# Altium integrated library TI Power Management Supervisor and Reset IC.IntLib: 819 symbols (part 25 of 30)
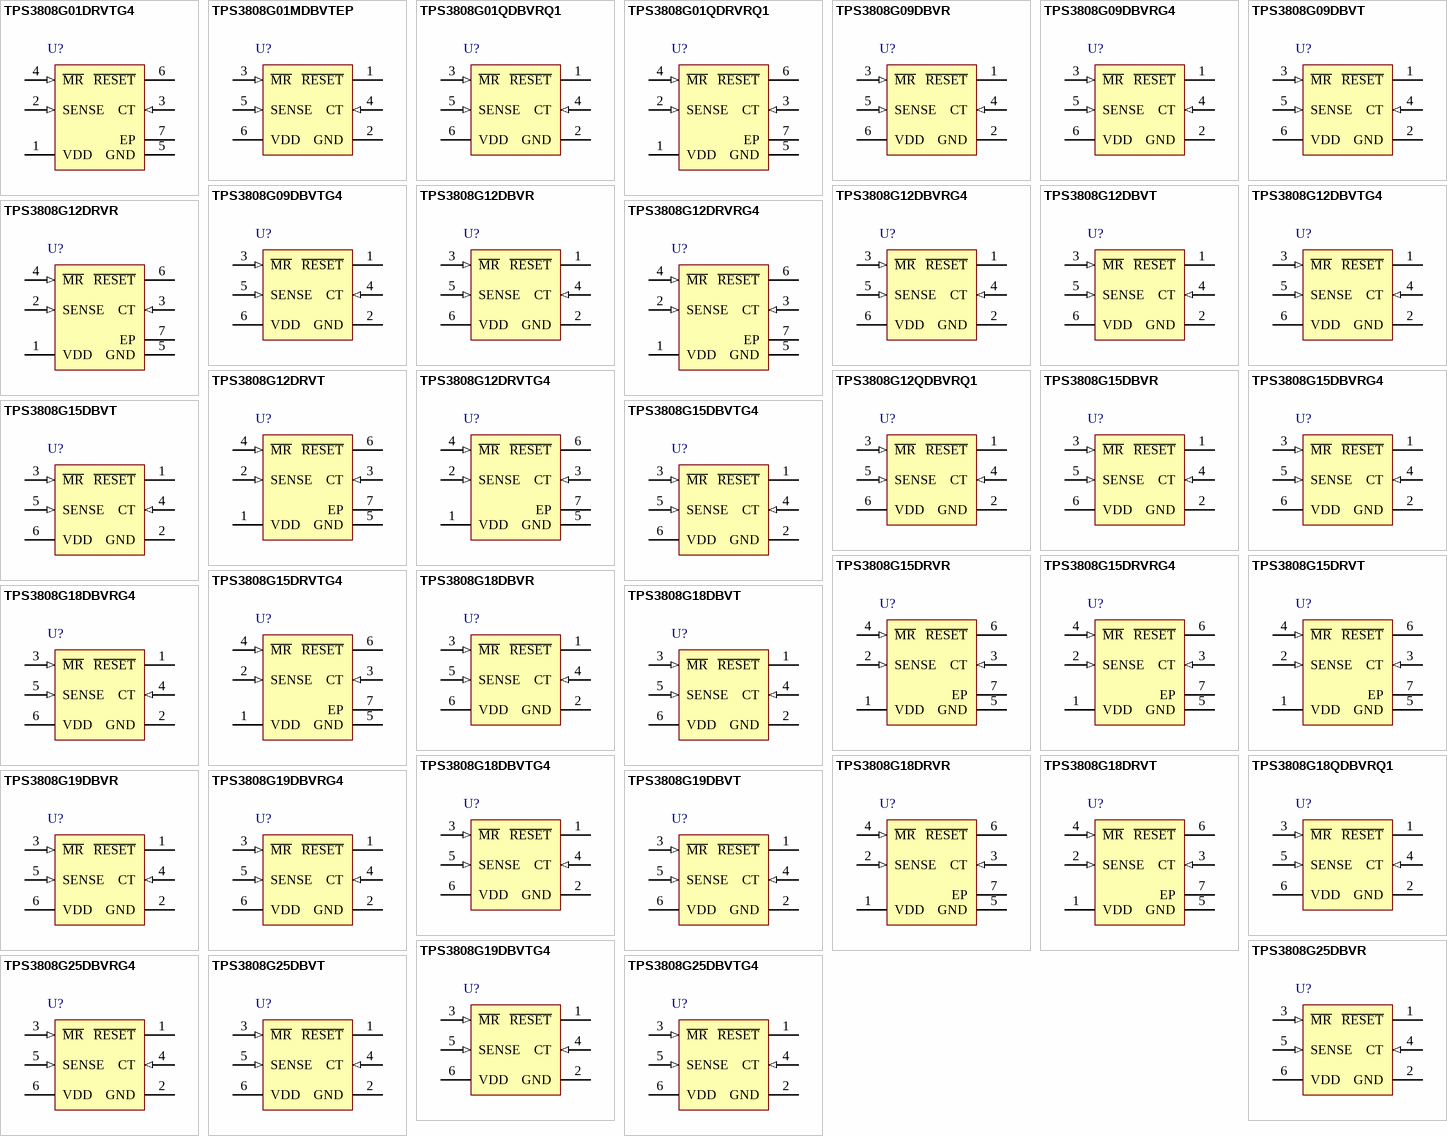
[diagram p45: symbols TPS3808G01DRVTG4 to TPS3808G25DBVTG4]

## TPS3808G19DBVTG4
designator U?
Low Quiescent Current, Programmable-Delay Supervisory Circuit, 1 Supply Monitored, -40 to 125 degC, 6-pin SOT-23 (DBV), Green (RoHS & no Sb/Br); Manufacturer: Texas Instruments; PartNumber: TPS3808G19DBVTG4; # of supplies monitored: 1; Iq(Typ)(uA): 2.4; Output Driver Type / Reset Output: Active-low, Open-drain; Rating: Catalog; Reset Threshold Accuracy(%): 0.5; SubFamily: Supervisor and Reset IC; Threshold Voltage 1 (typ)(Typ)(V): 1.77; VCC(Max)(V): 6.5; VCC(Min)(V): 1.7; DatasheetVersion: SBVS050J; PackageVersion: revK, Mar-2006; PackageReference: DBV6; PackageDescription: 6-Pin Plastic Small-Outline Package, 2.9 x 1.6 mm Body, 0.95 mm Pitch, 2.8 mm Lead Span; Supplier 1: Digi-Key; Supplier Part Number 1: TPS3808G19DBVTG4-ND; Supplier 2: Newark; Supplier Part Number 2: 03P5178; Supplier 3: Mouser; Supplier Part Number 3: 595-TPS3808G19DBVTG4; Time Delay(ms): Programmable; Mounting Technology: Surface Mount; Code_JEDEC: MO-178-AB*; ComponentLink1Description: Datasheet; ComponentLink1URL: http://www.ti.com/general/docs/lit/getliterature.tsp?genericPartNumber=TPS3808G19&fileType=pdf
footprint DBV6_N (SOT23, 6-Leads, Body 2.9x1.6mm, Pitch 0.95mm, Lead Span 2.8mm, IPC Medium Density)
footprint DBV6_L (SOT23, 6-Leads, Body 2.9x1.6mm, Pitch 0.95mm, Lead Span 2.8mm, IPC High Density)
footprint DBV6_M (SOT23, 6-Leads, Body 2.9x1.6mm, Pitch 0.95mm, Lead Span 2.8mm, IPC Low Density)
pins: 1 ~{RESET} (hiz) "R\E\S\E\T\ is an open-drain output that is driven to a low impedance state when R\E\S\E\T\ is asserted (either the SENSE input is lower than the threshold voltage (VIT) or the M\R\ pin is set to a logic low). R\E\S\E\T\ will (See Datasheet)", 2 GND (power) "Ground", 3 ~{MR} (in) "Driving the manual reset pin (M\R\) low asserts R\E\S\E\T\. M\R\ is internally tied to VDD by a 90k ohm pull-up resistor", 4 CT (in) "Reset period programming pin. Connecting this pin to VDD through a 40k ohm to 200k ohm resistor or leaving it open results in fixed delay times (see Electrical Characteristics). Connecting this pin to a ground referenced (See Datasheet)", 5 SENSE (in) "This pin is connected to the voltage to be monitored. If the voltage at this terminal drops below the threshold voltage VIT, then R\E\S\E\T\ is asserted.", 6 VDD (power) "Supply voltage. It is good analog design practice to place a 0.1µF ceramic capacitor close to this pin."

## TPS3808G25DBVR
designator U?
Low Quiescent Current, Programmable-Delay Supervisory Circuit, 1 Supply Monitored, -40 to 125 degC, 6-pin SOT-23 (DBV), Green (RoHS & no Sb/Br); Manufacturer: Texas Instruments; PartNumber: TPS3808G25DBVR; # of supplies monitored: 1; Iq(Typ)(uA): 2.4; Output Driver Type / Reset Output: Active-low, Open-drain; Rating: Catalog; Reset Threshold Accuracy(%): 0.5; SubFamily: Supervisor and Reset IC; Threshold Voltage 1 (typ)(Typ)(V): 2.33; VCC(Max)(V): 6.5; VCC(Min)(V): 1.7; DatasheetVersion: SBVS050J; PackageVersion: revK, Mar-2006; PackageReference: DBV6; PackageDescription: 6-Pin Plastic Small-Outline Package, 2.9 x 1.6 mm Body, 0.95 mm Pitch, 2.8 mm Lead Span; Supplier 1: Digi-Key; Supplier Part Number 1: 296-17193-2-ND; Supplier 2: Digi-Key; Supplier Part Number 2: 296-17193-1-ND; Supplier 3: Digi-Key; Supplier Part Number 3: 296-17193-6-ND; Supplier 4: Farnell; Supplier Part Number 4: 1574992; Supplier 5: Newark; Supplier Part Number 5: 21J9206; Supplier 6: Mouser; Supplier Part Number 6: 595-TPS3808G25DBVR; Time Delay(ms): Programmable; Mounting Technology: Surface Mount; Code_JEDEC: MO-178-AB*; ComponentLink1Description: Datasheet; ComponentLink1URL: http://www.ti.com/general/docs/lit/getliterature.tsp?genericPartNumber=TPS3808G25&fileType=pdf
footprint DBV6_N (SOT23, 6-Leads, Body 2.9x1.6mm, Pitch 0.95mm, Lead Span 2.8mm, IPC Medium Density)
footprint DBV6_L (SOT23, 6-Leads, Body 2.9x1.6mm, Pitch 0.95mm, Lead Span 2.8mm, IPC High Density)
footprint DBV6_M (SOT23, 6-Leads, Body 2.9x1.6mm, Pitch 0.95mm, Lead Span 2.8mm, IPC Low Density)
pins: 1 ~{RESET} (hiz) "R\E\S\E\T\ is an open-drain output that is driven to a low impedance state when R\E\S\E\T\ is asserted (either the SENSE input is lower than the threshold voltage (VIT) or the M\R\ pin is set to a logic low). R\E\S\E\T\ will (See Datasheet)", 2 GND (power) "Ground", 3 ~{MR} (in) "Driving the manual reset pin (M\R\) low asserts R\E\S\E\T\. M\R\ is internally tied to VDD by a 90k ohm pull-up resistor", 4 CT (in) "Reset period programming pin. Connecting this pin to VDD through a 40k ohm to 200k ohm resistor or leaving it open results in fixed delay times (see Electrical Characteristics). Connecting this pin to a ground referenced (See Datasheet)", 5 SENSE (in) "This pin is connected to the voltage to be monitored. If the voltage at this terminal drops below the threshold voltage VIT, then R\E\S\E\T\ is asserted.", 6 VDD (power) "Supply voltage. It is good analog design practice to place a 0.1µF ceramic capacitor close to this pin."

## TPS3808G25DBVRG4
designator U?
Low Quiescent Current, Programmable-Delay Supervisory Circuit, 1 Supply Monitored, -40 to 125 degC, 6-pin SOT-23 (DBV), Green (RoHS & no Sb/Br); Manufacturer: Texas Instruments; PartNumber: TPS3808G25DBVRG4; # of supplies monitored: 1; Iq(Typ)(uA): 2.4; Output Driver Type / Reset Output: Active-low, Open-drain; Rating: Catalog; Reset Threshold Accuracy(%): 0.5; SubFamily: Supervisor and Reset IC; Threshold Voltage 1 (typ)(Typ)(V): 2.33; VCC(Max)(V): 6.5; VCC(Min)(V): 1.7; DatasheetVersion: SBVS050J; PackageVersion: revK, Mar-2006; PackageReference: DBV6; PackageDescription: 6-Pin Plastic Small-Outline Package, 2.9 x 1.6 mm Body, 0.95 mm Pitch, 2.8 mm Lead Span; Supplier 1: Digi-Key; Supplier Part Number 1: TPS3808G25DBVRG4-ND; Supplier 2: Newark; Supplier Part Number 2: 08K4941; Supplier 3: Mouser; Supplier Part Number 3: 595-TPS3808G25DBVRG4; Time Delay(ms): Programmable; Mounting Technology: Surface Mount; Code_JEDEC: MO-178-AB*; ComponentLink1Description: Datasheet; ComponentLink1URL: http://www.ti.com/general/docs/lit/getliterature.tsp?genericPartNumber=TPS3808G25&fileType=pdf
footprint DBV6_N (SOT23, 6-Leads, Body 2.9x1.6mm, Pitch 0.95mm, Lead Span 2.8mm, IPC Medium Density)
footprint DBV6_L (SOT23, 6-Leads, Body 2.9x1.6mm, Pitch 0.95mm, Lead Span 2.8mm, IPC High Density)
footprint DBV6_M (SOT23, 6-Leads, Body 2.9x1.6mm, Pitch 0.95mm, Lead Span 2.8mm, IPC Low Density)
pins: 1 ~{RESET} (hiz) "R\E\S\E\T\ is an open-drain output that is driven to a low impedance state when R\E\S\E\T\ is asserted (either the SENSE input is lower than the threshold voltage (VIT) or the M\R\ pin is set to a logic low). R\E\S\E\T\ will (See Datasheet)", 2 GND (power) "Ground", 3 ~{MR} (in) "Driving the manual reset pin (M\R\) low asserts R\E\S\E\T\. M\R\ is internally tied to VDD by a 90k ohm pull-up resistor", 4 CT (in) "Reset period programming pin. Connecting this pin to VDD through a 40k ohm to 200k ohm resistor or leaving it open results in fixed delay times (see Electrical Characteristics). Connecting this pin to a ground referenced (See Datasheet)", 5 SENSE (in) "This pin is connected to the voltage to be monitored. If the voltage at this terminal drops below the threshold voltage VIT, then R\E\S\E\T\ is asserted.", 6 VDD (power) "Supply voltage. It is good analog design practice to place a 0.1µF ceramic capacitor close to this pin."

## TPS3808G25DBVT
designator U?
Low Quiescent Current, Programmable-Delay Supervisory Circuit, 1 Supply Monitored, -40 to 125 degC, 6-pin SOT-23 (DBV), Green (RoHS & no Sb/Br); Manufacturer: Texas Instruments; PartNumber: TPS3808G25DBVT; # of supplies monitored: 1; Iq(Typ)(uA): 2.4; Output Driver Type / Reset Output: Active-low, Open-drain; Rating: Catalog; Reset Threshold Accuracy(%): 0.5; SubFamily: Supervisor and Reset IC; Threshold Voltage 1 (typ)(Typ)(V): 2.33; VCC(Max)(V): 6.5; VCC(Min)(V): 1.7; DatasheetVersion: SBVS050J; PackageVersion: revK, Mar-2006; PackageReference: DBV6; PackageDescription: 6-Pin Plastic Small-Outline Package, 2.9 x 1.6 mm Body, 0.95 mm Pitch, 2.8 mm Lead Span; Supplier 1: Digi-Key; Supplier Part Number 1: 296-32482-2-ND; Supplier 2: Digi-Key; Supplier Part Number 2: 296-32482-1-ND; Supplier 3: Digi-Key; Supplier Part Number 3: 296-32482-6-ND; Supplier 4: Newark; Supplier Part Number 4: 21J9207; Supplier 5: Mouser; Supplier Part Number 5: 595-TPS3808G25DBVT; Time Delay(ms): Programmable; Mounting Technology: Surface Mount; Code_JEDEC: MO-178-AB*; ComponentLink1Description: Datasheet; ComponentLink1URL: http://www.ti.com/general/docs/lit/getliterature.tsp?genericPartNumber=TPS3808G25&fileType=pdf
footprint DBV6_N (SOT23, 6-Leads, Body 2.9x1.6mm, Pitch 0.95mm, Lead Span 2.8mm, IPC Medium Density)
footprint DBV6_L (SOT23, 6-Leads, Body 2.9x1.6mm, Pitch 0.95mm, Lead Span 2.8mm, IPC High Density)
footprint DBV6_M (SOT23, 6-Leads, Body 2.9x1.6mm, Pitch 0.95mm, Lead Span 2.8mm, IPC Low Density)
pins: 1 ~{RESET} (hiz) "R\E\S\E\T\ is an open-drain output that is driven to a low impedance state when R\E\S\E\T\ is asserted (either the SENSE input is lower than the threshold voltage (VIT) or the M\R\ pin is set to a logic low). R\E\S\E\T\ will (See Datasheet)", 2 GND (power) "Ground", 3 ~{MR} (in) "Driving the manual reset pin (M\R\) low asserts R\E\S\E\T\. M\R\ is internally tied to VDD by a 90k ohm pull-up resistor", 4 CT (in) "Reset period programming pin. Connecting this pin to VDD through a 40k ohm to 200k ohm resistor or leaving it open results in fixed delay times (see Electrical Characteristics). Connecting this pin to a ground referenced (See Datasheet)", 5 SENSE (in) "This pin is connected to the voltage to be monitored. If the voltage at this terminal drops below the threshold voltage VIT, then R\E\S\E\T\ is asserted.", 6 VDD (power) "Supply voltage. It is good analog design practice to place a 0.1µF ceramic capacitor close to this pin."

## TPS3808G25DBVTG4
designator U?
Low Quiescent Current, Programmable-Delay Supervisory Circuit, 1 Supply Monitored, -40 to 125 degC, 6-pin SOT-23 (DBV), Green (RoHS & no Sb/Br); Manufacturer: Texas Instruments; PartNumber: TPS3808G25DBVTG4; # of supplies monitored: 1; Iq(Typ)(uA): 2.4; Output Driver Type / Reset Output: Active-low, Open-drain; Rating: Catalog; Reset Threshold Accuracy(%): 0.5; SubFamily: Supervisor and Reset IC; Threshold Voltage 1 (typ)(Typ)(V): 2.33; VCC(Max)(V): 6.5; VCC(Min)(V): 1.7; DatasheetVersion: SBVS050J; PackageVersion: revK, Mar-2006; PackageReference: DBV6; PackageDescription: 6-Pin Plastic Small-Outline Package, 2.9 x 1.6 mm Body, 0.95 mm Pitch, 2.8 mm Lead Span; Supplier 1: Digi-Key; Supplier Part Number 1: TPS3808G25DBVTG4-ND; Supplier 2: Newark; Supplier Part Number 2: 24K5939; Supplier 3: Mouser; Supplier Part Number 3: 595-TPS3808G25DBVTG4; Time Delay(ms): Programmable; Mounting Technology: Surface Mount; Code_JEDEC: MO-178-AB*; ComponentLink1Description: Datasheet; ComponentLink1URL: http://www.ti.com/general/docs/lit/getliterature.tsp?genericPartNumber=TPS3808G25&fileType=pdf
footprint DBV6_N (SOT23, 6-Leads, Body 2.9x1.6mm, Pitch 0.95mm, Lead Span 2.8mm, IPC Medium Density)
footprint DBV6_L (SOT23, 6-Leads, Body 2.9x1.6mm, Pitch 0.95mm, Lead Span 2.8mm, IPC High Density)
footprint DBV6_M (SOT23, 6-Leads, Body 2.9x1.6mm, Pitch 0.95mm, Lead Span 2.8mm, IPC Low Density)
pins: 1 ~{RESET} (hiz) "R\E\S\E\T\ is an open-drain output that is driven to a low impedance state when R\E\S\E\T\ is asserted (either the SENSE input is lower than the threshold voltage (VIT) or the M\R\ pin is set to a logic low). R\E\S\E\T\ will (See Datasheet)", 2 GND (power) "Ground", 3 ~{MR} (in) "Driving the manual reset pin (M\R\) low asserts R\E\S\E\T\. M\R\ is internally tied to VDD by a 90k ohm pull-up resistor", 4 CT (in) "Reset period programming pin. Connecting this pin to VDD through a 40k ohm to 200k ohm resistor or leaving it open results in fixed delay times (see Electrical Characteristics). Connecting this pin to a ground referenced (See Datasheet)", 5 SENSE (in) "This pin is connected to the voltage to be monitored. If the voltage at this terminal drops below the threshold voltage VIT, then R\E\S\E\T\ is asserted.", 6 VDD (power) "Supply voltage. It is good analog design practice to place a 0.1µF ceramic capacitor close to this pin."

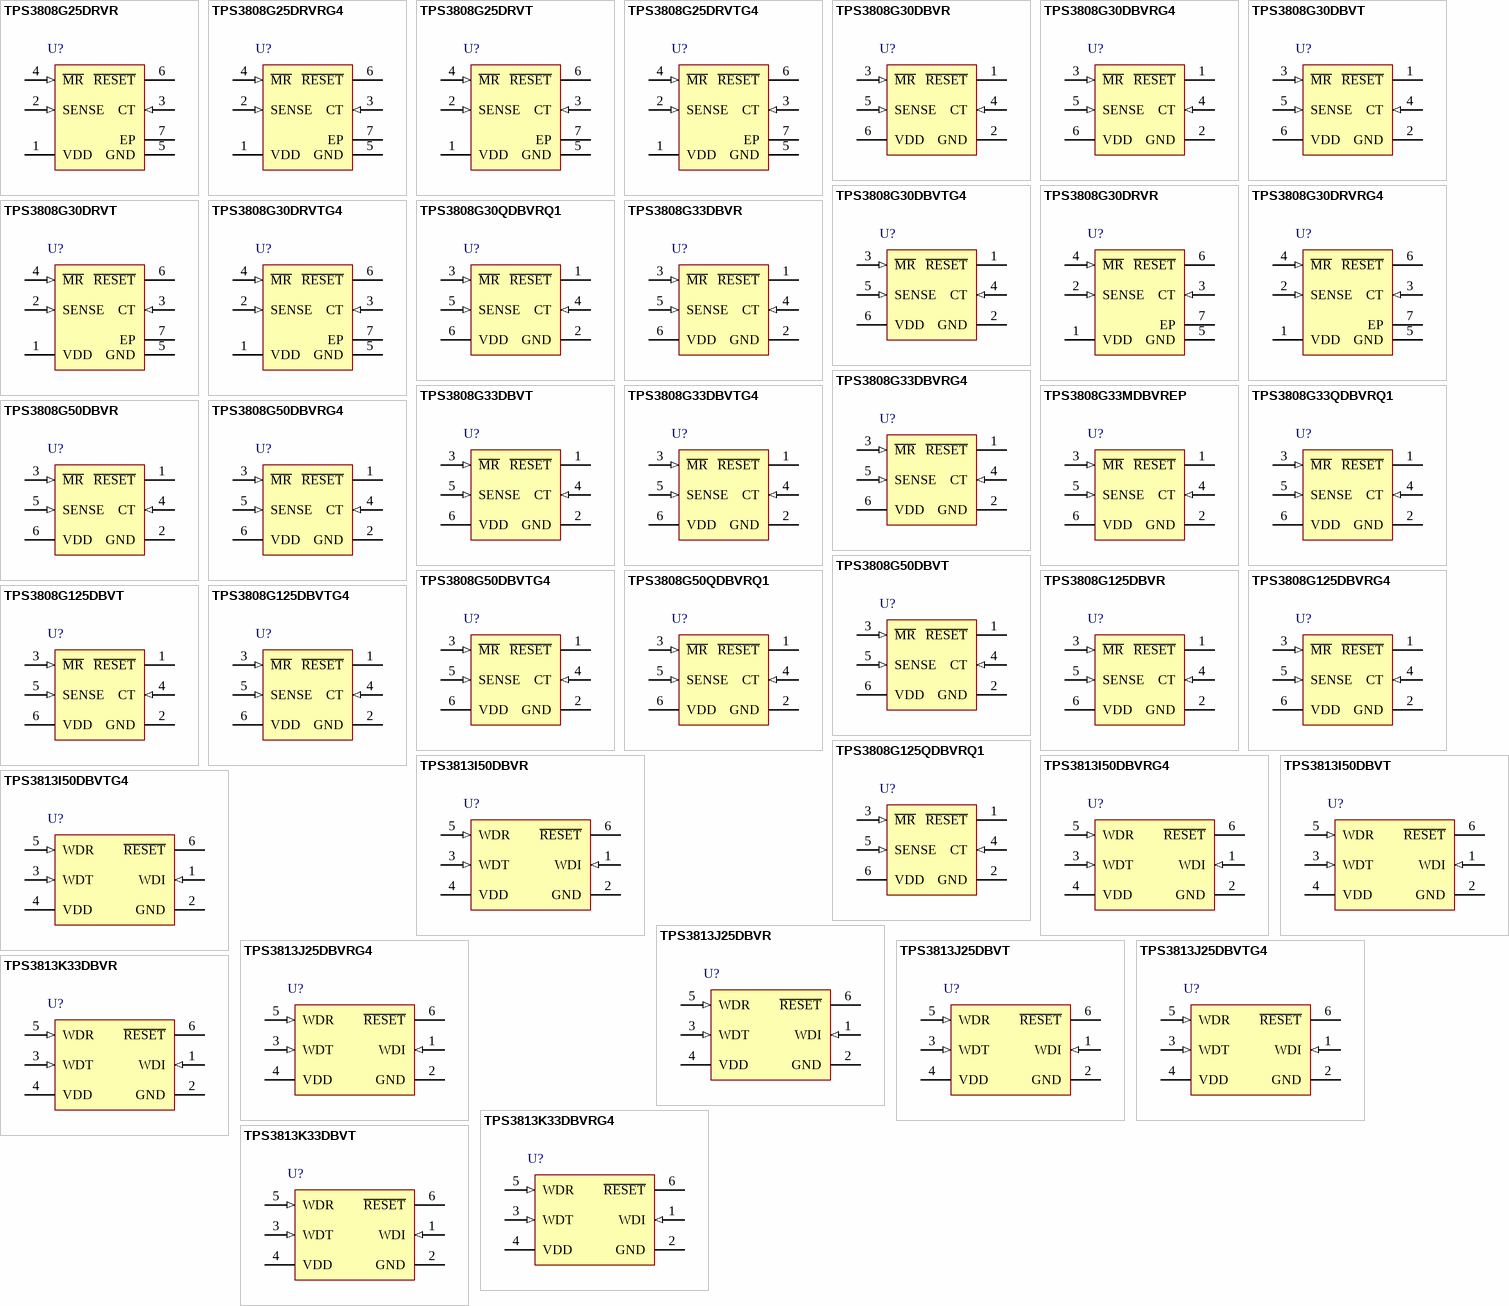
[diagram p18: symbols TPS3808G25DRVR to TPS3813K33DBVT]

## TPS3808G25DRVR
designator U?
Low Quiescent Current, Programmable-Delay Supervisory Circuit, 1 Supply Monitored, -40 to 125 degC, 6-pin SON (DRV), Green (RoHS & no Sb/Br); Manufacturer: Texas Instruments; PartNumber: TPS3808G25DRVR; # of supplies monitored: 1; Iq(Typ)(uA): 2.4; Output Driver Type / Reset Output: Active-low, Open-drain; Rating: Catalog; Reset Threshold Accuracy(%): 0.5; SubFamily: Supervisor and Reset IC; Threshold Voltage 1 (typ)(Typ)(V): 2.33; VCC(Max)(V): 6.5; VCC(Min)(V): 1.7; DatasheetVersion: SBVS050J; PackageVersion: revE, Oct-2010; PackageReference: DRV6-1600X1000TP; PackageDescription: 6-Pin Plastic Small Outline No-Lead, 2 x 2 x 0.8 mm Body, 0.65 mm Pitch, Exposed Pad; Supplier 1: Digi-Key; Supplier Part Number 1: 296-21642-2-ND; Supplier 2: Digi-Key; Supplier Part Number 2: 296-21642-1-ND; Supplier 3: Digi-Key; Supplier Part Number 3: 296-21642-6-ND; Supplier 4: Newark; Supplier Part Number 4: 34M0161; Supplier 5: Mouser; Supplier Part Number 5: 595-TPS3808G25DRVR; Time Delay(ms): Programmable; Mounting Technology: Surface Mount; ComponentLink1Description: Datasheet; ComponentLink1URL: http://www.ti.com/general/docs/lit/getliterature.tsp?genericPartNumber=TPS3808G25&fileType=pdf
footprint DRV6-1600X1000TP (SON, 6-Leads, Body 2x2mm, Pitch 0.65mm, Thermal Pad 1.6x1mm, TI Recommended)
pins: 1 VDD (power) "Supply voltage. It is good analog design practice to place a 0.1uF ceramic capacitor close to this pin.", 2 SENSE (in) "This pin is connected to the voltage to be monitored. If the voltage at this terminal drops below the threshold voltage VIT, then R\E\S\E\T\ is asserted", 3 CT (in) "Reset period programming pin. Connecting this pin to VDD through a 40k ohm to 200k ohm resistor or leaving it open results in fixed delay times (see Electrical Characteristics). Connecting this pin to a ground referenced (See Datasheet)", 4 ~{MR} (in) "Driving the manual reset pin (M\R\) low asserts R\E\S\E\T\. M\R\ is internally tied to VDD by a 90k ohm pull-up resistor", 5 GND (power) "Ground", 6 ~{RESET} (hiz) "R\E\S\E\T\ is an open-drain output that is driven to a low impedance state when R\E\S\E\T\ is asserted (either the SENSE input is lower than the threshold voltage (VIT) or the M\R\ pin is set to a logic low). R\E\S\E\T\ will (See Datasheet)", 7 EP (power) "PowerPAD. Connect to ground plane to enhance thermal performance of package."

## TPS3808G25DRVRG4
designator U?
Low Quiescent Current, Programmable-Delay Supervisory Circuit, 1 Supply Monitored, -40 to 125 degC, 6-pin SON (DRV), Green (RoHS & no Sb/Br); Manufacturer: Texas Instruments; PartNumber: TPS3808G25DRVRG4; # of supplies monitored: 1; Iq(Typ)(uA): 2.4; Output Driver Type / Reset Output: Active-low, Open-drain; Rating: Catalog; Reset Threshold Accuracy(%): 0.5; SubFamily: Supervisor and Reset IC; Threshold Voltage 1 (typ)(Typ)(V): 2.33; VCC(Max)(V): 6.5; VCC(Min)(V): 1.7; DatasheetVersion: SBVS050J; PackageVersion: revE, Oct-2010; PackageReference: DRV6-1600X1000TP; PackageDescription: 6-Pin Plastic Small Outline No-Lead, 2 x 2 x 0.8 mm Body, 0.65 mm Pitch, Exposed Pad; Supplier 1: Digi-Key; Supplier Part Number 1: TPS3808G25DRVRG4-ND; Supplier 2: Newark; Supplier Part Number 2: 34M0162; Supplier 3: Mouser; Supplier Part Number 3: 595-TPS3808G25DRVRG4; Time Delay(ms): Programmable; Mounting Technology: Surface Mount; ComponentLink1Description: Datasheet; ComponentLink1URL: http://www.ti.com/general/docs/lit/getliterature.tsp?genericPartNumber=TPS3808G25&fileType=pdf
footprint DRV6-1600X1000TP (SON, 6-Leads, Body 2x2mm, Pitch 0.65mm, Thermal Pad 1.6x1mm, TI Recommended)
pins: 1 VDD (power) "Supply voltage. It is good analog design practice to place a 0.1uF ceramic capacitor close to this pin.", 2 SENSE (in) "This pin is connected to the voltage to be monitored. If the voltage at this terminal drops below the threshold voltage VIT, then R\E\S\E\T\ is asserted", 3 CT (in) "Reset period programming pin. Connecting this pin to VDD through a 40k ohm to 200k ohm resistor or leaving it open results in fixed delay times (see Electrical Characteristics). Connecting this pin to a ground referenced (See Datasheet)", 4 ~{MR} (in) "Driving the manual reset pin (M\R\) low asserts R\E\S\E\T\. M\R\ is internally tied to VDD by a 90k ohm pull-up resistor", 5 GND (power) "Ground", 6 ~{RESET} (hiz) "R\E\S\E\T\ is an open-drain output that is driven to a low impedance state when R\E\S\E\T\ is asserted (either the SENSE input is lower than the threshold voltage (VIT) or the M\R\ pin is set to a logic low). R\E\S\E\T\ will (See Datasheet)", 7 EP (power) "PowerPAD. Connect to ground plane to enhance thermal performance of package."

## TPS3808G25DRVT
designator U?
Low Quiescent Current, Programmable-Delay Supervisory Circuit, 1 Supply Monitored, -40 to 125 degC, 6-pin SON (DRV), Green (RoHS & no Sb/Br); Manufacturer: Texas Instruments; PartNumber: TPS3808G25DRVT; # of supplies monitored: 1; Iq(Typ)(uA): 2.4; Output Driver Type / Reset Output: Active-low, Open-drain; Rating: Catalog; Reset Threshold Accuracy(%): 0.5; SubFamily: Supervisor and Reset IC; Threshold Voltage 1 (typ)(Typ)(V): 2.33; VCC(Max)(V): 6.5; VCC(Min)(V): 1.7; DatasheetVersion: SBVS050J; PackageVersion: revE, Oct-2010; PackageReference: DRV6-1600X1000TP; PackageDescription: 6-Pin Plastic Small Outline No-Lead, 2 x 2 x 0.8 mm Body, 0.65 mm Pitch, Exposed Pad; Supplier 1: Digi-Key; Supplier Part Number 1: TPS3808G25DRVT-ND; Supplier 2: Newark; Supplier Part Number 2: 34M0163; Supplier 3: Mouser; Supplier Part Number 3: 595-TPS3808G25DRVT; Time Delay(ms): Programmable; Mounting Technology: Surface Mount; ComponentLink1Description: Datasheet; ComponentLink1URL: http://www.ti.com/general/docs/lit/getliterature.tsp?genericPartNumber=TPS3808G25&fileType=pdf
footprint DRV6-1600X1000TP (SON, 6-Leads, Body 2x2mm, Pitch 0.65mm, Thermal Pad 1.6x1mm, TI Recommended)
pins: 1 VDD (power) "Supply voltage. It is good analog design practice to place a 0.1uF ceramic capacitor close to this pin.", 2 SENSE (in) "This pin is connected to the voltage to be monitored. If the voltage at this terminal drops below the threshold voltage VIT, then R\E\S\E\T\ is asserted", 3 CT (in) "Reset period programming pin. Connecting this pin to VDD through a 40k ohm to 200k ohm resistor or leaving it open results in fixed delay times (see Electrical Characteristics). Connecting this pin to a ground referenced (See Datasheet)", 4 ~{MR} (in) "Driving the manual reset pin (M\R\) low asserts R\E\S\E\T\. M\R\ is internally tied to VDD by a 90k ohm pull-up resistor", 5 GND (power) "Ground", 6 ~{RESET} (hiz) "R\E\S\E\T\ is an open-drain output that is driven to a low impedance state when R\E\S\E\T\ is asserted (either the SENSE input is lower than the threshold voltage (VIT) or the M\R\ pin is set to a logic low). R\E\S\E\T\ will (See Datasheet)", 7 EP (power) "PowerPAD. Connect to ground plane to enhance thermal performance of package."

## TPS3808G25DRVTG4
designator U?
Low Quiescent Current, Programmable-Delay Supervisory Circuit, 1 Supply Monitored, -40 to 125 degC, 6-pin SON (DRV), Green (RoHS & no Sb/Br); Manufacturer: Texas Instruments; PartNumber: TPS3808G25DRVTG4; # of supplies monitored: 1; Iq(Typ)(uA): 2.4; Output Driver Type / Reset Output: Active-low, Open-drain; Rating: Catalog; Reset Threshold Accuracy(%): 0.5; SubFamily: Supervisor and Reset IC; Threshold Voltage 1 (typ)(Typ)(V): 2.33; VCC(Max)(V): 6.5; VCC(Min)(V): 1.7; DatasheetVersion: SBVS050J; PackageVersion: revE, Oct-2010; PackageReference: DRV6-1600X1000TP; PackageDescription: 6-Pin Plastic Small Outline No-Lead, 2 x 2 x 0.8 mm Body, 0.65 mm Pitch, Exposed Pad; Supplier 1: Digi-Key; Supplier Part Number 1: TPS3808G25DRVTG4-ND; Supplier 2: Newark; Supplier Part Number 2: 34M0164; Supplier 3: Mouser; Supplier Part Number 3: 595-TPS3808G25DRVTG4; Time Delay(ms): Programmable; Mounting Technology: Surface Mount; ComponentLink1Description: Datasheet; ComponentLink1URL: http://www.ti.com/general/docs/lit/getliterature.tsp?genericPartNumber=TPS3808G25&fileType=pdf
footprint DRV6-1600X1000TP (SON, 6-Leads, Body 2x2mm, Pitch 0.65mm, Thermal Pad 1.6x1mm, TI Recommended)
pins: 1 VDD (power) "Supply voltage. It is good analog design practice to place a 0.1uF ceramic capacitor close to this pin.", 2 SENSE (in) "This pin is connected to the voltage to be monitored. If the voltage at this terminal drops below the threshold voltage VIT, then R\E\S\E\T\ is asserted", 3 CT (in) "Reset period programming pin. Connecting this pin to VDD through a 40k ohm to 200k ohm resistor or leaving it open results in fixed delay times (see Electrical Characteristics). Connecting this pin to a ground referenced (See Datasheet)", 4 ~{MR} (in) "Driving the manual reset pin (M\R\) low asserts R\E\S\E\T\. M\R\ is internally tied to VDD by a 90k ohm pull-up resistor", 5 GND (power) "Ground", 6 ~{RESET} (hiz) "R\E\S\E\T\ is an open-drain output that is driven to a low impedance state when R\E\S\E\T\ is asserted (either the SENSE input is lower than the threshold voltage (VIT) or the M\R\ pin is set to a logic low). R\E\S\E\T\ will (See Datasheet)", 7 EP (power) "PowerPAD. Connect to ground plane to enhance thermal performance of package."

## TPS3808G30DBVR
designator U?
Low Quiescent Current, Programmable-Delay Supervisory Circuit, 1 Supply Monitored, -40 to 125 degC, 6-pin SOT-23 (DBV), Green (RoHS & no Sb/Br); Manufacturer: Texas Instruments; PartNumber: TPS3808G30DBVR; # of supplies monitored: 1; Iq(Typ)(uA): 2.4; Output Driver Type / Reset Output: Active-low, Open-drain; Rating: Catalog; Reset Threshold Accuracy(%): 0.5; SubFamily: Supervisor and Reset IC; Threshold Voltage 1 (typ)(Typ)(V): 2.79; VCC(Max)(V): 6.5; VCC(Min)(V): 1.7; DatasheetVersion: SBVS050J; PackageVersion: revK, Mar-2006; PackageReference: DBV6; PackageDescription: 6-Pin Plastic Small-Outline Package, 2.9 x 1.6 mm Body, 0.95 mm Pitch, 2.8 mm Lead Span; Supplier 1: Digi-Key; Supplier Part Number 1: 296-17194-2-ND; Supplier 2: Digi-Key; Supplier Part Number 2: 296-17194-1-ND; Supplier 3: Digi-Key; Supplier Part Number 3: 296-17194-6-ND; Supplier 4: Newark; Supplier Part Number 4: 21J9208; Supplier 5: Mouser; Supplier Part Number 5: 595-TPS3808G30DBVR; Time Delay(ms): Programmable; Mounting Technology: Surface Mount; Code_JEDEC: MO-178-AB*; ComponentLink1Description: Datasheet; ComponentLink1URL: http://www.ti.com/general/docs/lit/getliterature.tsp?genericPartNumber=TPS3808G30&fileType=pdf
footprint DBV6_N (SOT23, 6-Leads, Body 2.9x1.6mm, Pitch 0.95mm, Lead Span 2.8mm, IPC Medium Density)
footprint DBV6_L (SOT23, 6-Leads, Body 2.9x1.6mm, Pitch 0.95mm, Lead Span 2.8mm, IPC High Density)
footprint DBV6_M (SOT23, 6-Leads, Body 2.9x1.6mm, Pitch 0.95mm, Lead Span 2.8mm, IPC Low Density)
pins: 1 ~{RESET} (hiz) "R\E\S\E\T\ is an open-drain output that is driven to a low impedance state when R\E\S\E\T\ is asserted (either the SENSE input is lower than the threshold voltage (VIT) or the M\R\ pin is set to a logic low). R\E\S\E\T\ will (See Datasheet)", 2 GND (power) "Ground", 3 ~{MR} (in) "Driving the manual reset pin (M\R\) low asserts R\E\S\E\T\. M\R\ is internally tied to VDD by a 90k ohm pull-up resistor", 4 CT (in) "Reset period programming pin. Connecting this pin to VDD through a 40k ohm to 200k ohm resistor or leaving it open results in fixed delay times (see Electrical Characteristics). Connecting this pin to a ground referenced (See Datasheet)", 5 SENSE (in) "This pin is connected to the voltage to be monitored. If the voltage at this terminal drops below the threshold voltage VIT, then R\E\S\E\T\ is asserted.", 6 VDD (power) "Supply voltage. It is good analog design practice to place a 0.1µF ceramic capacitor close to this pin."

## TPS3808G30DBVRG4
designator U?
Low Quiescent Current, Programmable-Delay Supervisory Circuit, 1 Supply Monitored, -40 to 125 degC, 6-pin SOT-23 (DBV), Green (RoHS & no Sb/Br); Manufacturer: Texas Instruments; PartNumber: TPS3808G30DBVRG4; # of supplies monitored: 1; Iq(Typ)(uA): 2.4; Output Driver Type / Reset Output: Active-low, Open-drain; Rating: Catalog; Reset Threshold Accuracy(%): 0.5; SubFamily: Supervisor and Reset IC; Threshold Voltage 1 (typ)(Typ)(V): 2.79; VCC(Max)(V): 6.5; VCC(Min)(V): 1.7; DatasheetVersion: SBVS050J; PackageVersion: revK, Mar-2006; PackageReference: DBV6; PackageDescription: 6-Pin Plastic Small-Outline Package, 2.9 x 1.6 mm Body, 0.95 mm Pitch, 2.8 mm Lead Span; Supplier 1: Digi-Key; Supplier Part Number 1: TPS3808G30DBVRG4-ND; Supplier 2: Newark; Supplier Part Number 2: 08K4942; Supplier 3: Mouser; Supplier Part Number 3: 595-TPS3808G30DBVRG4; Time Delay(ms): Programmable; Mounting Technology: Surface Mount; Code_JEDEC: MO-178-AB*; ComponentLink1Description: Datasheet; ComponentLink1URL: http://www.ti.com/general/docs/lit/getliterature.tsp?genericPartNumber=TPS3808G30&fileType=pdf
footprint DBV6_N (SOT23, 6-Leads, Body 2.9x1.6mm, Pitch 0.95mm, Lead Span 2.8mm, IPC Medium Density)
footprint DBV6_L (SOT23, 6-Leads, Body 2.9x1.6mm, Pitch 0.95mm, Lead Span 2.8mm, IPC High Density)
footprint DBV6_M (SOT23, 6-Leads, Body 2.9x1.6mm, Pitch 0.95mm, Lead Span 2.8mm, IPC Low Density)
pins: 1 ~{RESET} (hiz) "R\E\S\E\T\ is an open-drain output that is driven to a low impedance state when R\E\S\E\T\ is asserted (either the SENSE input is lower than the threshold voltage (VIT) or the M\R\ pin is set to a logic low). R\E\S\E\T\ will (See Datasheet)", 2 GND (power) "Ground", 3 ~{MR} (in) "Driving the manual reset pin (M\R\) low asserts R\E\S\E\T\. M\R\ is internally tied to VDD by a 90k ohm pull-up resistor", 4 CT (in) "Reset period programming pin. Connecting this pin to VDD through a 40k ohm to 200k ohm resistor or leaving it open results in fixed delay times (see Electrical Characteristics). Connecting this pin to a ground referenced (See Datasheet)", 5 SENSE (in) "This pin is connected to the voltage to be monitored. If the voltage at this terminal drops below the threshold voltage VIT, then R\E\S\E\T\ is asserted.", 6 VDD (power) "Supply voltage. It is good analog design practice to place a 0.1µF ceramic capacitor close to this pin."

## TPS3808G30DBVT
designator U?
Low Quiescent Current, Programmable-Delay Supervisory Circuit, 1 Supply Monitored, -40 to 125 degC, 6-pin SOT-23 (DBV), Green (RoHS & no Sb/Br); Manufacturer: Texas Instruments; PartNumber: TPS3808G30DBVT; # of supplies monitored: 1; Iq(Typ)(uA): 2.4; Output Driver Type / Reset Output: Active-low, Open-drain; Rating: Catalog; Reset Threshold Accuracy(%): 0.5; SubFamily: Supervisor and Reset IC; Threshold Voltage 1 (typ)(Typ)(V): 2.79; VCC(Max)(V): 6.5; VCC(Min)(V): 1.7; DatasheetVersion: SBVS050J; PackageVersion: revK, Mar-2006; PackageReference: DBV6; PackageDescription: 6-Pin Plastic Small-Outline Package, 2.9 x 1.6 mm Body, 0.95 mm Pitch, 2.8 mm Lead Span; Supplier 1: Digi-Key; Supplier Part Number 1: 296-26944-2-ND; Supplier 2: Digi-Key; Supplier Part Number 2: 296-26944-1-ND; Supplier 3: Digi-Key; Supplier Part Number 3: 296-26944-6-ND; Supplier 4: Newark; Supplier Part Number 4: 21J9209; Supplier 5: Mouser; Supplier Part Number 5: 595-TPS3808G30DBVT; Time Delay(ms): Programmable; Mounting Technology: Surface Mount; Code_JEDEC: MO-178-AB*; ComponentLink1Description: Datasheet; ComponentLink1URL: http://www.ti.com/general/docs/lit/getliterature.tsp?genericPartNumber=TPS3808G30&fileType=pdf
footprint DBV6_N (SOT23, 6-Leads, Body 2.9x1.6mm, Pitch 0.95mm, Lead Span 2.8mm, IPC Medium Density)
footprint DBV6_L (SOT23, 6-Leads, Body 2.9x1.6mm, Pitch 0.95mm, Lead Span 2.8mm, IPC High Density)
footprint DBV6_M (SOT23, 6-Leads, Body 2.9x1.6mm, Pitch 0.95mm, Lead Span 2.8mm, IPC Low Density)
pins: 1 ~{RESET} (hiz) "R\E\S\E\T\ is an open-drain output that is driven to a low impedance state when R\E\S\E\T\ is asserted (either the SENSE input is lower than the threshold voltage (VIT) or the M\R\ pin is set to a logic low). R\E\S\E\T\ will (See Datasheet)", 2 GND (power) "Ground", 3 ~{MR} (in) "Driving the manual reset pin (M\R\) low asserts R\E\S\E\T\. M\R\ is internally tied to VDD by a 90k ohm pull-up resistor", 4 CT (in) "Reset period programming pin. Connecting this pin to VDD through a 40k ohm to 200k ohm resistor or leaving it open results in fixed delay times (see Electrical Characteristics). Connecting this pin to a ground referenced (See Datasheet)", 5 SENSE (in) "This pin is connected to the voltage to be monitored. If the voltage at this terminal drops below the threshold voltage VIT, then R\E\S\E\T\ is asserted.", 6 VDD (power) "Supply voltage. It is good analog design practice to place a 0.1µF ceramic capacitor close to this pin."

## TPS3808G30DBVTG4
designator U?
Low Quiescent Current, Programmable-Delay Supervisory Circuit, 1 Supply Monitored, -40 to 125 degC, 6-pin SOT-23 (DBV), Green (RoHS & no Sb/Br); Manufacturer: Texas Instruments; PartNumber: TPS3808G30DBVTG4; # of supplies monitored: 1; Iq(Typ)(uA): 2.4; Output Driver Type / Reset Output: Active-low, Open-drain; Rating: Catalog; Reset Threshold Accuracy(%): 0.5; SubFamily: Supervisor and Reset IC; Threshold Voltage 1 (typ)(Typ)(V): 2.79; VCC(Max)(V): 6.5; VCC(Min)(V): 1.7; DatasheetVersion: SBVS050J; PackageVersion: revK, Mar-2006; PackageReference: DBV6; PackageDescription: 6-Pin Plastic Small-Outline Package, 2.9 x 1.6 mm Body, 0.95 mm Pitch, 2.8 mm Lead Span; Supplier 1: Digi-Key; Supplier Part Number 1: TPS3808G30DBVTG4-ND; Supplier 2: Newark; Supplier Part Number 2: 24K5940; Supplier 3: Mouser; Supplier Part Number 3: 595-TPS3808G30DBVTG4; Time Delay(ms): Programmable; Mounting Technology: Surface Mount; Code_JEDEC: MO-178-AB*; ComponentLink1Description: Datasheet; ComponentLink1URL: http://www.ti.com/general/docs/lit/getliterature.tsp?genericPartNumber=TPS3808G30&fileType=pdf
footprint DBV6_N (SOT23, 6-Leads, Body 2.9x1.6mm, Pitch 0.95mm, Lead Span 2.8mm, IPC Medium Density)
footprint DBV6_L (SOT23, 6-Leads, Body 2.9x1.6mm, Pitch 0.95mm, Lead Span 2.8mm, IPC High Density)
footprint DBV6_M (SOT23, 6-Leads, Body 2.9x1.6mm, Pitch 0.95mm, Lead Span 2.8mm, IPC Low Density)
pins: 1 ~{RESET} (hiz) "R\E\S\E\T\ is an open-drain output that is driven to a low impedance state when R\E\S\E\T\ is asserted (either the SENSE input is lower than the threshold voltage (VIT) or the M\R\ pin is set to a logic low). R\E\S\E\T\ will (See Datasheet)", 2 GND (power) "Ground", 3 ~{MR} (in) "Driving the manual reset pin (M\R\) low asserts R\E\S\E\T\. M\R\ is internally tied to VDD by a 90k ohm pull-up resistor", 4 CT (in) "Reset period programming pin. Connecting this pin to VDD through a 40k ohm to 200k ohm resistor or leaving it open results in fixed delay times (see Electrical Characteristics). Connecting this pin to a ground referenced (See Datasheet)", 5 SENSE (in) "This pin is connected to the voltage to be monitored. If the voltage at this terminal drops below the threshold voltage VIT, then R\E\S\E\T\ is asserted.", 6 VDD (power) "Supply voltage. It is good analog design practice to place a 0.1µF ceramic capacitor close to this pin."

## TPS3808G30DRVR
designator U?
Low Quiescent Current, Programmable-Delay Supervisory Circuit, 1 Supply Monitored, -40 to 125 degC, 6-pin SON (DRV), Green (RoHS & no Sb/Br); Manufacturer: Texas Instruments; PartNumber: TPS3808G30DRVR; # of supplies monitored: 1; Iq(Typ)(uA): 2.4; Output Driver Type / Reset Output: Active-low, Open-drain; Rating: Catalog; Reset Threshold Accuracy(%): 0.5; SubFamily: Supervisor and Reset IC; Threshold Voltage 1 (typ)(Typ)(V): 2.79; VCC(Max)(V): 6.5; VCC(Min)(V): 1.7; DatasheetVersion: SBVS050J; PackageVersion: revE, Oct-2010; PackageReference: DRV6-1600X1000TP; PackageDescription: 6-Pin Plastic Small Outline No-Lead, 2 x 2 x 0.8 mm Body, 0.65 mm Pitch, Exposed Pad; Supplier 1: Digi-Key; Supplier Part Number 1: 296-23103-2-ND; Supplier 2: Digi-Key; Supplier Part Number 2: 296-23103-1-ND; Supplier 3: Digi-Key; Supplier Part Number 3: 296-23103-6-ND; Supplier 4: Newark; Supplier Part Number 4: 85M0219; Supplier 5: Mouser; Supplier Part Number 5: 595-TPS3808G30DRVR; Time Delay(ms): Programmable; Mounting Technology: Surface Mount; ComponentLink1Description: Datasheet; ComponentLink1URL: http://www.ti.com/general/docs/lit/getliterature.tsp?genericPartNumber=TPS3808G30&fileType=pdf
footprint DRV6-1600X1000TP (SON, 6-Leads, Body 2x2mm, Pitch 0.65mm, Thermal Pad 1.6x1mm, TI Recommended)
pins: 1 VDD (power) "Supply voltage. It is good analog design practice to place a 0.1uF ceramic capacitor close to this pin.", 2 SENSE (in) "This pin is connected to the voltage to be monitored. If the voltage at this terminal drops below the threshold voltage VIT, then R\E\S\E\T\ is asserted", 3 CT (in) "Reset period programming pin. Connecting this pin to VDD through a 40k ohm to 200k ohm resistor or leaving it open results in fixed delay times (see Electrical Characteristics). Connecting this pin to a ground referenced (See Datasheet)", 4 ~{MR} (in) "Driving the manual reset pin (M\R\) low asserts R\E\S\E\T\. M\R\ is internally tied to VDD by a 90k ohm pull-up resistor.", 5 GND (power) "Ground", 6 ~{RESET} (hiz) "R\E\S\E\T\ is an open-drain output that is driven to a low impedance state when R\E\S\E\T\ is asserted (either the SENSE input is lower than the threshold voltage (VIT) or the M\R\ pin is set to a logic low). R\E\S\E\T\ will (See Datasheet)", 7 EP (power) "PowerPAD. Connect to ground plane to enhance thermal performance of package."

## TPS3808G30DRVRG4
designator U?
Low Quiescent Current, Programmable-Delay Supervisory Circuit, 1 Supply Monitored, -40 to 125 degC, 6-pin SON (DRV), Green (RoHS & no Sb/Br); Manufacturer: Texas Instruments; PartNumber: TPS3808G30DRVRG4; # of supplies monitored: 1; Iq(Typ)(uA): 2.4; Output Driver Type / Reset Output: Active-low, Open-drain; Rating: Catalog; Reset Threshold Accuracy(%): 0.5; SubFamily: Supervisor and Reset IC; Threshold Voltage 1 (typ)(Typ)(V): 2.79; VCC(Max)(V): 6.5; VCC(Min)(V): 1.7; DatasheetVersion: SBVS050J; PackageVersion: revE, Oct-2010; PackageReference: DRV6-1600X1000TP; PackageDescription: 6-Pin Plastic Small Outline No-Lead, 2 x 2 x 0.8 mm Body, 0.65 mm Pitch, Exposed Pad; Supplier 1: Digi-Key; Supplier Part Number 1: TPS3808G30DRVRG4-ND; Supplier 2: Mouser; Supplier Part Number 2: 595-TPS3808G30DRVRG4; Time Delay(ms): Programmable; Mounting Technology: Surface Mount; ComponentLink1Description: Datasheet; ComponentLink1URL: http://www.ti.com/general/docs/lit/getliterature.tsp?genericPartNumber=TPS3808G30&fileType=pdf
footprint DRV6-1600X1000TP (SON, 6-Leads, Body 2x2mm, Pitch 0.65mm, Thermal Pad 1.6x1mm, TI Recommended)
pins: 1 VDD (power) "Supply voltage. It is good analog design practice to place a 0.1uF ceramic capacitor close to this pin.", 2 SENSE (in) "This pin is connected to the voltage to be monitored. If the voltage at this terminal drops below the threshold voltage VIT, then R\E\S\E\T\ is asserted", 3 CT (in) "Reset period programming pin. Connecting this pin to VDD through a 40k ohm to 200k ohm resistor or leaving it open results in fixed delay times (see Electrical Characteristics). Connecting this pin to a ground referenced (See Datasheet)", 4 ~{MR} (in) "Driving the manual reset pin (M\R\) low asserts R\E\S\E\T\. M\R\ is internally tied to VDD by a 90k ohm pull-up resistor.", 5 GND (power) "Ground", 6 ~{RESET} (hiz) "R\E\S\E\T\ is an open-drain output that is driven to a low impedance state when R\E\S\E\T\ is asserted (either the SENSE input is lower than the threshold voltage (VIT) or the M\R\ pin is set to a logic low). R\E\S\E\T\ will (See Datasheet)", 7 EP (power) "PowerPAD. Connect to ground plane to enhance thermal performance of package."

## TPS3808G30DRVT
designator U?
Low Quiescent Current, Programmable-Delay Supervisory Circuit, 1 Supply Monitored, -40 to 125 degC, 6-pin SON (DRV), Green (RoHS & no Sb/Br); Manufacturer: Texas Instruments; PartNumber: TPS3808G30DRVT; # of supplies monitored: 1; Iq(Typ)(uA): 2.4; Output Driver Type / Reset Output: Active-low, Open-drain; Rating: Catalog; Reset Threshold Accuracy(%): 0.5; SubFamily: Supervisor and Reset IC; Threshold Voltage 1 (typ)(Typ)(V): 2.79; VCC(Max)(V): 6.5; VCC(Min)(V): 1.7; DatasheetVersion: SBVS050J; PackageVersion: revE, Oct-2010; PackageReference: DRV6-1600X1000TP; PackageDescription: 6-Pin Plastic Small Outline No-Lead, 2 x 2 x 0.8 mm Body, 0.65 mm Pitch, Exposed Pad; Supplier 1: Digi-Key; Supplier Part Number 1: TPS3808G30DRVT-ND; Supplier 2: Newark; Supplier Part Number 2: 85M0220; Supplier 3: Mouser; Supplier Part Number 3: 595-TPS3808G30DRVT; Time Delay(ms): Programmable; Mounting Technology: Surface Mount; ComponentLink1Description: Datasheet; ComponentLink1URL: http://www.ti.com/general/docs/lit/getliterature.tsp?genericPartNumber=TPS3808G30&fileType=pdf
footprint DRV6-1600X1000TP (SON, 6-Leads, Body 2x2mm, Pitch 0.65mm, Thermal Pad 1.6x1mm, TI Recommended)
pins: 1 VDD (power) "Supply voltage. It is good analog design practice to place a 0.1uF ceramic capacitor close to this pin.", 2 SENSE (in) "This pin is connected to the voltage to be monitored. If the voltage at this terminal drops below the threshold voltage VIT, then R\E\S\E\T\ is asserted", 3 CT (in) "Reset period programming pin. Connecting this pin to VDD through a 40k ohm to 200k ohm resistor or leaving it open results in fixed delay times (see Electrical Characteristics). Connecting this pin to a ground referenced (See Datasheet)", 4 ~{MR} (in) "Driving the manual reset pin (M\R\) low asserts R\E\S\E\T\. M\R\ is internally tied to VDD by a 90k ohm pull-up resistor.", 5 GND (power) "Ground", 6 ~{RESET} (hiz) "R\E\S\E\T\ is an open-drain output that is driven to a low impedance state when R\E\S\E\T\ is asserted (either the SENSE input is lower than the threshold voltage (VIT) or the M\R\ pin is set to a logic low). R\E\S\E\T\ will (See Datasheet)", 7 EP (power) "PowerPAD. Connect to ground plane to enhance thermal performance of package."

## TPS3808G30DRVTG4
designator U?
Low Quiescent Current, Programmable-Delay Supervisory Circuit, 1 Supply Monitored, -40 to 125 degC, 6-pin SON (DRV), Green (RoHS & no Sb/Br); Manufacturer: Texas Instruments; PartNumber: TPS3808G30DRVTG4; # of supplies monitored: 1; Iq(Typ)(uA): 2.4; Output Driver Type / Reset Output: Active-low, Open-drain; Rating: Catalog; Reset Threshold Accuracy(%): 0.5; SubFamily: Supervisor and Reset IC; Threshold Voltage 1 (typ)(Typ)(V): 2.79; VCC(Max)(V): 6.5; VCC(Min)(V): 1.7; DatasheetVersion: SBVS050J; PackageVersion: revE, Oct-2010; PackageReference: DRV6-1600X1000TP; PackageDescription: 6-Pin Plastic Small Outline No-Lead, 2 x 2 x 0.8 mm Body, 0.65 mm Pitch, Exposed Pad; Supplier 1: Digi-Key; Supplier Part Number 1: TPS3808G30DRVTG4-ND; Supplier 2: Newark; Supplier Part Number 2: 95M0041; Supplier 3: Mouser; Supplier Part Number 3: 595-TPS3808G30DRVTG4; Time Delay(ms): Programmable; Mounting Technology: Surface Mount; ComponentLink1Description: Datasheet; ComponentLink1URL: http://www.ti.com/general/docs/lit/getliterature.tsp?genericPartNumber=TPS3808G30&fileType=pdf
footprint DRV6-1600X1000TP (SON, 6-Leads, Body 2x2mm, Pitch 0.65mm, Thermal Pad 1.6x1mm, TI Recommended)
pins: 1 VDD (power) "Supply voltage. It is good analog design practice to place a 0.1uF ceramic capacitor close to this pin.", 2 SENSE (in) "This pin is connected to the voltage to be monitored. If the voltage at this terminal drops below the threshold voltage VIT, then R\E\S\E\T\ is asserted", 3 CT (in) "Reset period programming pin. Connecting this pin to VDD through a 40k ohm to 200k ohm resistor or leaving it open results in fixed delay times (see Electrical Characteristics). Connecting this pin to a ground referenced (See Datasheet)", 4 ~{MR} (in) "Driving the manual reset pin (M\R\) low asserts R\E\S\E\T\. M\R\ is internally tied to VDD by a 90k ohm pull-up resistor.", 5 GND (power) "Ground", 6 ~{RESET} (hiz) "R\E\S\E\T\ is an open-drain output that is driven to a low impedance state when R\E\S\E\T\ is asserted (either the SENSE input is lower than the threshold voltage (VIT) or the M\R\ pin is set to a logic low). R\E\S\E\T\ will (See Datasheet)", 7 EP (power) "PowerPAD. Connect to ground plane to enhance thermal performance of package."

## TPS3808G30QDBVRQ1
designator U?
Automotive Catalog Low Quiescent Current, Programmable-Delay Supervisory Circuit, 1 Supply Monitored, -40 to 125 degC, 6-pin SOT-23 (DBV), Green (RoHS & no Sb/Br); Manufacturer: Texas Instruments; PartNumber: TPS3808G30QDBVRQ1; # of supplies monitored: 1; Iq(Typ)(uA): 2.4; Output Driver Type / Reset Output: Active-low, Open-drain; Reset Threshold Accuracy(%): 0.5; SubFamily: Supervisor and Reset IC; Threshold Voltage 1 (typ)(Typ)(V): 2.79; VCC(Max)(V): 6.5; VCC(Min)(V): 1.7; DatasheetVersion: SBVS085H; PackageVersion: revK, Mar-2006; PackageReference: DBV6; PackageDescription: 6-Pin Plastic Small-Outline Package, 2.9 x 1.6 mm Body, 0.95 mm Pitch, 2.8 mm Lead Span; Supplier 1: Digi-Key; Supplier Part Number 1: 296-23327-2-ND; Supplier 2: Digi-Key; Supplier Part Number 2: 296-23327-1-ND; Supplier 3: Digi-Key; Supplier Part Number 3: 296-23327-6-ND; Supplier 4: Newark; Supplier Part Number 4: 53M4002; Supplier 5: Mouser; Supplier Part Number 5: 595-PS3808G30QDBVRQ1; Rating: Automotive; Time Delay(ms): Programmable; Mounting Technology: Surface Mount; Code_JEDEC: MO-178-AB*; ComponentLink1Description: Datasheet; ComponentLink1URL: http://www.ti.com/general/docs/lit/getliterature.tsp?genericPartNumber=TPS3808G30-Q1&fileType=pdf
footprint DBV6_N (SOT23, 6-Leads, Body 2.9x1.6mm, Pitch 0.95mm, Lead Span 2.8mm, IPC Medium Density)
footprint DBV6_L (SOT23, 6-Leads, Body 2.9x1.6mm, Pitch 0.95mm, Lead Span 2.8mm, IPC High Density)
footprint DBV6_M (SOT23, 6-Leads, Body 2.9x1.6mm, Pitch 0.95mm, Lead Span 2.8mm, IPC Low Density)
pins: 1 ~{RESET} (oc) "Reset. This is an open-drain output that is driven to a low impedance state when R\E\S\E\T\ is asserted (either the SENSE input is lower than the threshold voltage (VIT) or the M\R\ pin is set to a logic low). R\E\S\E\T\ (See Datasheet)", 2 GND (power) "Ground", 3 ~{MR} (in) "Manual reset. Driving this pin low asserts R\E\S\E\T\. M\R\ is internally tied to VDD by a 90-k ohm pullup resistor.", 4 CT (in) "Reset period programming. Connecting this pin to VDD through a 40-k ohm to 200-k ohm resistor or leaving it open results in fixed delay times (see Electrical Characteristics). Connecting this pin to a ground referenced (See Datasheet)", 5 SENSE (in) "Voltage sense. This pin is connected to the voltage to be monitored. If the voltage at this terminal drops below the threshold voltage (VIT), R\E\S\E\T\ is asserted.", 6 VDD (power) "Supply voltage. It is good analog design practice to place a 0.1-uF ceramic capacitor close to this pin."

## TPS3808G33DBVR
designator U?
Low Quiescent Current, Programmable-Delay Supervisory Circuit, 1 Supply Monitored, -40 to 125 degC, 6-pin SOT-23 (DBV), Green (RoHS & no Sb/Br); Manufacturer: Texas Instruments; PartNumber: TPS3808G33DBVR; # of supplies monitored: 1; Iq(Typ)(uA): 2.4; Output Driver Type / Reset Output: Active-low, Open-drain; Rating: Catalog; Reset Threshold Accuracy(%): 0.5; SubFamily: Supervisor and Reset IC; Threshold Voltage 1 (typ)(Typ)(V): 3.07; VCC(Max)(V): 6.5; VCC(Min)(V): 1.7; DatasheetVersion: SBVS050J; PackageVersion: revK, Mar-2006; PackageReference: DBV6; PackageDescription: 6-Pin Plastic Small-Outline Package, 2.9 x 1.6 mm Body, 0.95 mm Pitch, 2.8 mm Lead Span; Supplier 1: Digi-Key; Supplier Part Number 1: 296-17195-2-ND; Supplier 2: Digi-Key; Supplier Part Number 2: 296-17195-1-ND; Supplier 3: Digi-Key; Supplier Part Number 3: 296-17195-6-ND; Supplier 4: Farnell; Supplier Part Number 4: 1703467; Supplier 5: Newark; Supplier Part Number 5: 21J9210; Supplier 6: Mouser; Supplier Part Number 6: 595-TPS3808G33DBVR; Time Delay(ms): Programmable; Mounting Technology: Surface Mount; Code_JEDEC: MO-178-AB*; ComponentLink1Description: Datasheet; ComponentLink1URL: http://www.ti.com/general/docs/lit/getliterature.tsp?genericPartNumber=TPS3808G33&fileType=pdf
footprint DBV6_N (SOT23, 6-Leads, Body 2.9x1.6mm, Pitch 0.95mm, Lead Span 2.8mm, IPC Medium Density)
footprint DBV6_L (SOT23, 6-Leads, Body 2.9x1.6mm, Pitch 0.95mm, Lead Span 2.8mm, IPC High Density)
footprint DBV6_M (SOT23, 6-Leads, Body 2.9x1.6mm, Pitch 0.95mm, Lead Span 2.8mm, IPC Low Density)
pins: 1 ~{RESET} (hiz) "R\E\S\E\T\ is an open-drain output that is driven to a low impedance state when R\E\S\E\T\ is asserted (either the SENSE input is lower than the threshold voltage (VIT) or the M\R\ pin is set to a logic low). R\E\S\E\T\ will (See Datasheet)", 2 GND (power) "Ground", 3 ~{MR} (in) "Driving the manual reset pin (M\R\) low asserts R\E\S\E\T\. M\R\ is internally tied to VDD by a 90k ohm pull-up resistor", 4 CT (in) "Reset period programming pin. Connecting this pin to VDD through a 40k ohm to 200k ohm resistor or leaving it open results in fixed delay times (see Electrical Characteristics). Connecting this pin to a ground referenced (See Datasheet)", 5 SENSE (in) "This pin is connected to the voltage to be monitored. If the voltage at this terminal drops below the threshold voltage VIT, then R\E\S\E\T\ is asserted.", 6 VDD (power) "Supply voltage. It is good analog design practice to place a 0.1µF ceramic capacitor close to this pin."

## TPS3808G33DBVRG4
designator U?
Low Quiescent Current, Programmable-Delay Supervisory Circuit, 1 Supply Monitored, -40 to 125 degC, 6-pin SOT-23 (DBV), Green (RoHS & no Sb/Br); Manufacturer: Texas Instruments; PartNumber: TPS3808G33DBVRG4; # of supplies monitored: 1; Iq(Typ)(uA): 2.4; Output Driver Type / Reset Output: Active-low, Open-drain; Rating: Catalog; Reset Threshold Accuracy(%): 0.5; SubFamily: Supervisor and Reset IC; Threshold Voltage 1 (typ)(Typ)(V): 3.07; VCC(Max)(V): 6.5; VCC(Min)(V): 1.7; DatasheetVersion: SBVS050J; PackageVersion: revK, Mar-2006; PackageReference: DBV6; PackageDescription: 6-Pin Plastic Small-Outline Package, 2.9 x 1.6 mm Body, 0.95 mm Pitch, 2.8 mm Lead Span; Supplier 1: Digi-Key; Supplier Part Number 1: TPS3808G33DBVRG4-ND; Supplier 2: Newark; Supplier Part Number 2: 73J8379; Supplier 3: Mouser; Supplier Part Number 3: 595-TPS3808G33DBVRG4; Time Delay(ms): Programmable; Mounting Technology: Surface Mount; Code_JEDEC: MO-178-AB*; ComponentLink1Description: Datasheet; ComponentLink1URL: http://www.ti.com/general/docs/lit/getliterature.tsp?genericPartNumber=TPS3808G33&fileType=pdf
footprint DBV6_N (SOT23, 6-Leads, Body 2.9x1.6mm, Pitch 0.95mm, Lead Span 2.8mm, IPC Medium Density)
footprint DBV6_L (SOT23, 6-Leads, Body 2.9x1.6mm, Pitch 0.95mm, Lead Span 2.8mm, IPC High Density)
footprint DBV6_M (SOT23, 6-Leads, Body 2.9x1.6mm, Pitch 0.95mm, Lead Span 2.8mm, IPC Low Density)
pins: 1 ~{RESET} (hiz) "R\E\S\E\T\ is an open-drain output that is driven to a low impedance state when R\E\S\E\T\ is asserted (either the SENSE input is lower than the threshold voltage (VIT) or the M\R\ pin is set to a logic low). R\E\S\E\T\ will (See Datasheet)", 2 GND (power) "Ground", 3 ~{MR} (in) "Driving the manual reset pin (M\R\) low asserts R\E\S\E\T\. M\R\ is internally tied to VDD by a 90k ohm pull-up resistor", 4 CT (in) "Reset period programming pin. Connecting this pin to VDD through a 40k ohm to 200k ohm resistor or leaving it open results in fixed delay times (see Electrical Characteristics). Connecting this pin to a ground referenced (See Datasheet)", 5 SENSE (in) "This pin is connected to the voltage to be monitored. If the voltage at this terminal drops below the threshold voltage VIT, then R\E\S\E\T\ is asserted.", 6 VDD (power) "Supply voltage. It is good analog design practice to place a 0.1µF ceramic capacitor close to this pin."